# Altium footprint library ON Semi General Purpose Transistors.PcbLib: 66 footprints (part 2 of 5)
Each footprint in its own frame and in the unit in brackets; x right, y up, seen from the top. Pads: shape width x height; smd on the part's side, far side on the other; paste and mask are expansions set on the pad; w line width, h text height; cw(c..) or ccw(c..) is an arc to the next point about the centre after c.
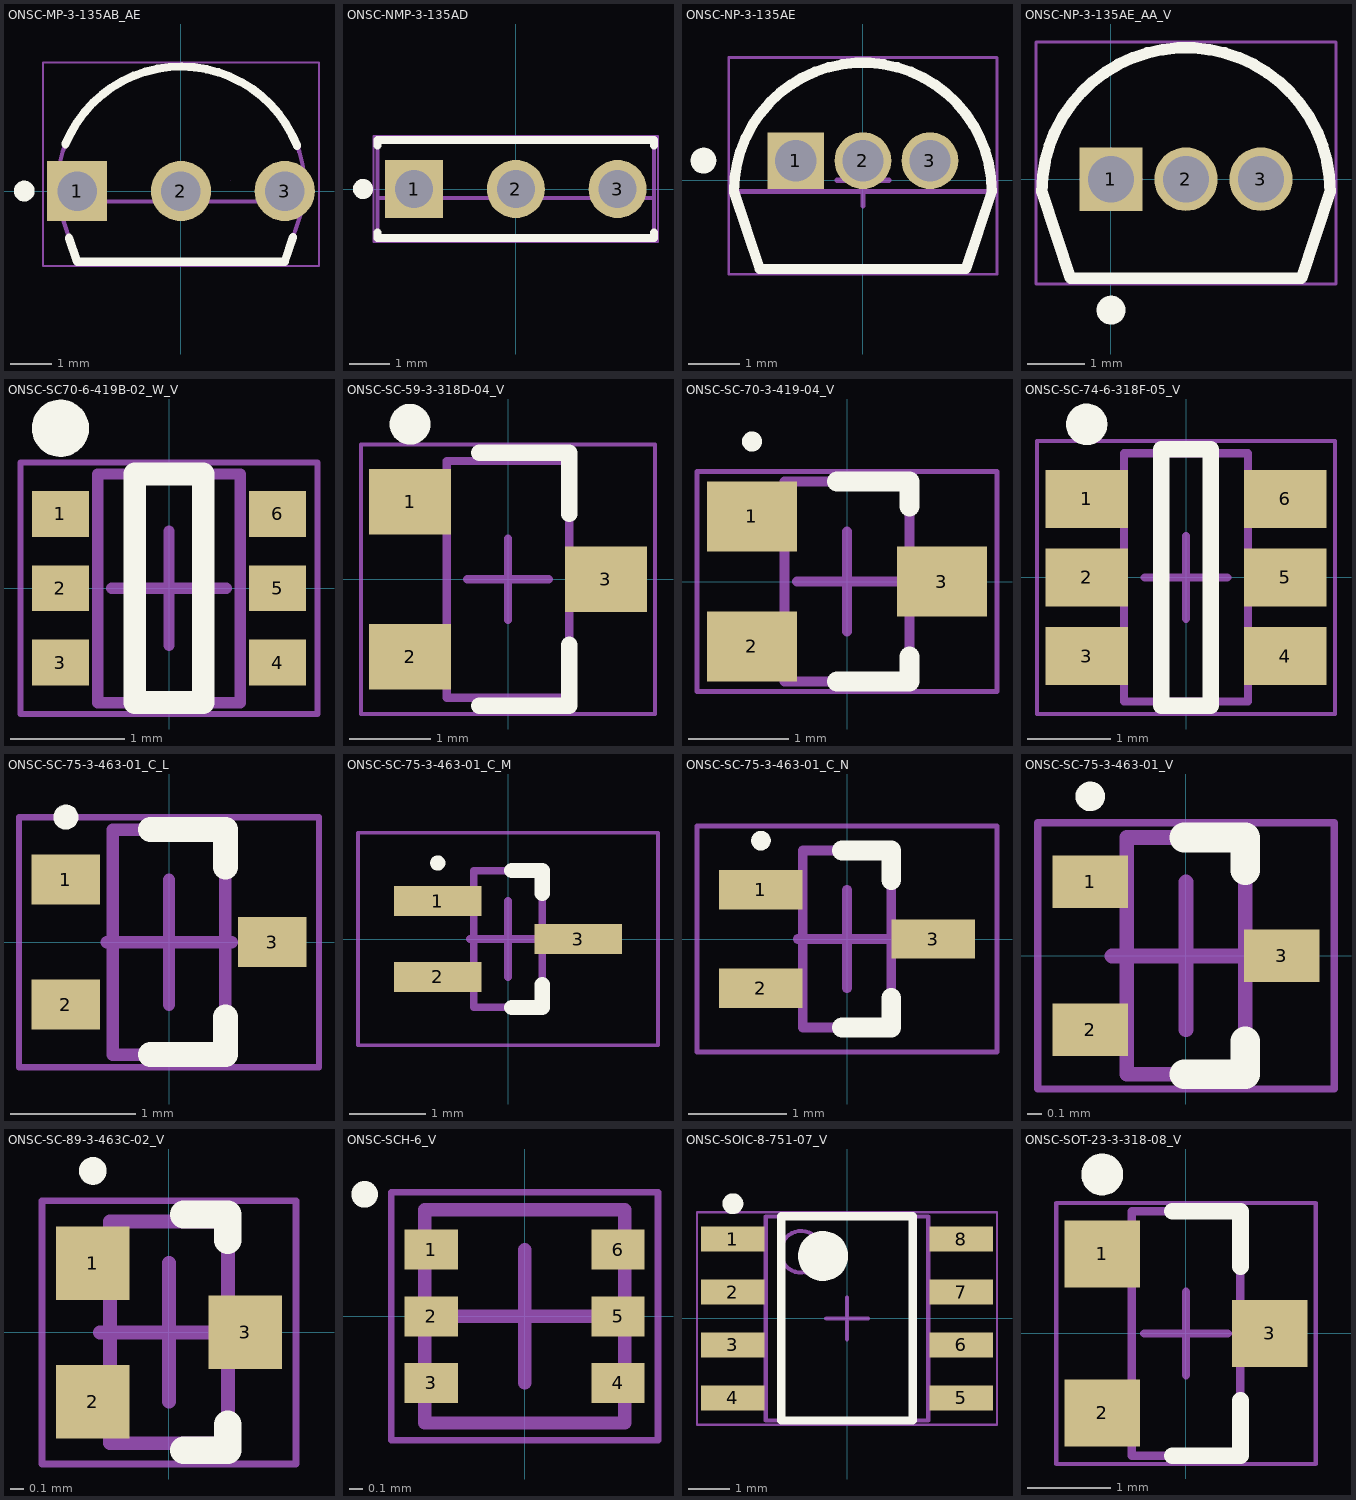
[diagram p1: the footprints below, top view; thin cyan lines are the x and y axes]

## ONSC-MP-3-135AB_AE [mm] "TO, 3-Leads, Body Dia 6mm, Pitch 2.5mm"
height 12.7
pads (3):
  rect 1.45x1.45 hole 0.95: 1(-2.5,0)
  round 1.45 hole 0.95: 2(0,0) 3(2.5,0)
Top Overlay:
  circle w0.25: c-3.775,0 r0.125
  lines w0.2: -2.781,1.125 cw(c0,0) 2.797,1.085 ; -2.694,-1.125 -2.5,-1.7 2.5,-1.7 2.7,-1.108
Mechanical 13:
  lines w0.005: 1.2,0.25 ccw(c1.2,0.25) 1.2,0.25
  lines w0.1: -2.989,-0.25 2.989,-0.25 2.5,-1.7 -2.5,-1.7 -2.989,-0.25 cw(c0,0.004) 2.989,-0.249
Mechanical 15:
  lines w0.05: -3.325,-1.8 -3.325,3.1 3.325,3.1 3.325,-1.8 -3.325,-1.8
  lines w0.1: -0.5,0 0.5,0 ; 0,-0.5 0,0.5
3D body: height 4, standoff -10, extent -2.75,-0.25 -1.2,0.25
3D body: height 12.7, standoff 4, extent -2.989,-1.7 2.989,-0.249
3D body: height 12.7, standoff 4, extent -2.999,-0.25 2.999,3
3D body: height 4, standoff -10, extent -0.25,-0.25 0.25,0.25
3D body: height 4, standoff -10, extent 1.2,-0.25 2.75,0.25

## ONSC-NMP-3-135AD [mm] "NMP, 3-Leads, Body 6.9x2.45mm, Pitch 2.54mm"
height 6.5
pads (3):
  rect 1.45x1.45 hole 0.95: 1(-2.54,0)
  round 1.45 hole 0.95: 2(0,0) 3(2.54,0)
Top Overlay:
  circle w0.25: c-3.815,0 r0.125
  lines w0.2: -3.45,-1.083 -3.45,-1.225 3.45,-1.225 3.45,-1.083 ; -3.45,1.083 -3.45,1.225 3.45,1.225 3.45,1.083
Mechanical 13:
  lines w0.1: -3.45,-0.225 3.45,-0.225 ; -3.45,-1.225 3.45,-1.225 3.45,1.225 -3.45,1.225 -3.45,-1.225
Mechanical 15:
  lines w0.05: -3.55,-1.325 -3.55,1.325 3.55,1.325 3.55,-1.325 -3.55,-1.325
  lines w0.1: -0.5,0 0.5,0 ; 0,-0.5 0,0.5
3D body: height 6.5, standoff 4.44, extent -3.455,-1.228 3.445,0.837
3D body: height 6.5, standoff 2, extent -3.45,-0.225 3.45,1.225
3D body: height 5.5, standoff 2, extent -3.45,-1.225 3.45,-0.225
3D body "2.step": height 2, standoff -13, extent -2.79,-0.225 2.79,0.225

## ONSC-NP-3-135AE [mm] "TO, 3-Leads, Body Dia 5 mm, Pitch 1.3 mm"
height 7.1
pads (3):
  rect 1.1x1.1 hole 0.8: 1(-1.3,0.38)
  round 1.1 hole 0.8: 2(0,0.38) 3(1.3,0.38)
Top Overlay:
  circle w0.25: c-3.092,0.38 r0.125
  lines w0.2: -2.5,-0.22 cw(c0,-0.22) 2.5,-0.22 2,-1.72 -2,-1.72 -2.5,-0.22
Mechanical 13:
  lines w0.1: -2.5,-0.22 cw(c0,-0.22) 2.5,-0.22 ; -2.5,-0.22 -2,-1.72 2,-1.72 2.5,-0.22 ; -2.5,-0.22 2.5,-0.22
Mechanical 15:
  lines w0.05: -2.6,-1.82 2.6,-1.82 2.6,2.38 -2.6,2.38 -2.6,-1.82
  lines w0.1: -0.5,0 0.5,0 ; 0,-0.5 0,0.5
3D body: height 7.1, standoff 1.9, extent -2.5,-1.719 2.5,2.279

## ONSC-NP-3-135AE_AA_V [mm] "NP, 3-Leads, Body 5x4mm, Pitch 1.3mm"
height 5
pads (3):
  rect 1.1x1.1 hole 0.8 paste-0.06: 1(0,0)
  round 1.1 hole 0.8 paste-0.06: 2(1.3,0) 3(2.6,0)
Top Overlay:
  circle w0.25: c0,-2.27 r0.125
  lines w0.2: -1.2,-0.22 cw(c1.3,-0.22) 3.8,-0.22 3.3,-1.72 -0.7,-1.72 -1.2,-0.22
Mechanical 13:
  lines w0.005: 0.28,-0.22 0.28,0.22 ; 1.05,-0.22 1.05,0.22 ; -0.195,-0.22 -0.195,0.22 0.255,0.22 0.255,-0.22 -0.195,-0.22 ; 1.075,-0.22 1.525,-0.22 1.525,0.22 1.075,0.22 1.075,-0.22 ; 2.32,-0.22 2.82,-0.22 2.82,0.22 2.32,0.22 2.32,-0.22 ; 2.345,-0.22 2.345,0.22 2.795,0.22 2.795,-0.22 2.345,-0.22
  lines w0.1: -1.2,-0.22 cw(c1.3,-0.22) 3.8,-0.22 3.3,-1.72 -0.7,-1.72 -1.2,-0.22
Mechanical 15:
  lines w0.05: -1.3,-1.82 3.9,-1.82 3.9,2.38 -1.3,2.38 -1.3,-1.82
  lines w0.1: -0.5,0 0.5,0 ; 0,-0.5 0,0.5
3D body: height -1.4, standoff -2, extent -0.195,-0.22 0.28,0.22
3D body: height -1.4, standoff -2, extent 2.32,-0.22 2.82,0.22
3D body: height -1.4, standoff -2, extent 1.05,-0.22 1.525,0.22
3D body: height 5, standoff 0, extent -1.2,-1.719 3.8,2.279
3D body: height -2, standoff -4, extent -0.195,-0.22 0.255,0.22
3D body: height -2, standoff -4, extent 1.075,-0.22 1.525,0.22
3D body: height -2, standoff -4, extent 2.345,-0.22 2.795,0.22
3D body: height 0, standoff -1.4, extent -0.195,-0.22 0.255,0.22
3D body: height 0, standoff -1.4, extent 1.075,-0.22 1.525,0.22
3D body: height 0, standoff -1.4, extent 2.345,-0.22 2.795,0.22

## ONSC-SC70-6-419B-02_W_V [mm] "SOT23, 6-Leads, Body 2x1.25mm, Pitch 0.65mm"
height 1.1
pads (6):
  rect 0.5x0.4 smd: 1(-0.95,0.65) 2(-0.95,0) 3(-0.95,-0.65) 4(0.95,-0.65) 5(0.95,0) 6(0.95,0.65)
Top Overlay:
  circle w0.25: c-0.95,1.4 r0.125
  lines w0.2: -0.3,-1 0.3,-1 0.3,1 -0.3,1 -0.3,-1
Mechanical 13:
  lines w0.1: -0.625,-1 -0.625,1 0.625,1 0.625,-1 -0.625,-1
Mechanical 15:
  lines w0.05: -1.3,-1.1 -1.3,1.1 1.3,1.1 1.3,-1.1 -1.3,-1.1
  lines w0.1: -0.5,0 0.5,0 ; 0,-0.5 0,0.5
3D body: height 1.1, standoff 0, extent -0.625,-1 0.625,1

## ONSC-SC-59-3-318D-04_V [mm] "SOT23, 3-Leads, Body 2.9x1.5mm, Pitch 0.95mm"
height 1.3
pads (3):
  rect 1x0.8 smd: 1(-1.2,0.95) 2(-1.2,-0.95) 3(1.2,0)
Top Overlay:
  circle w0.25: c-1.2,1.9 r0.125
  lines w0.2: -0.354,-1.55 0.75,-1.55 0.75,-0.8 ; -0.354,1.55 0.75,1.55 0.75,0.8
Mechanical 13:
  lines w0.1: -0.75,-1.45 -0.75,1.45 0.75,1.45 0.75,-1.45 -0.75,-1.45
Mechanical 15:
  lines w0.05: -1.8,-1.65 -1.8,1.65 1.8,1.65 1.8,-1.65 -1.8,-1.65
  lines w0.1: -0.5,0 0.5,0 ; 0,-0.5 0,0.5
3D body: height 1.3, standoff 0.01, extent -0.75,-1.45 0.75,1.45

## ONSC-SC-70-3-419-04_V [mm] "SOT23, 3-Leads, Body 2x1.25mm, Pitch 0.65mm"
height 1
pads (3):
  rect 0.9x0.7 smd: 1(-0.95,0.65) 2(-0.95,-0.65) 3(0.95,0)
Top Overlay:
  circle w0.1: c-0.95,1.4 r0.05
  lines w0.2: -0.1,-1 0.625,-1 0.625,-0.75 ; -0.1,1 0.625,1 0.625,0.75
Mechanical 13:
  lines w0.1: -0.625,-1 0.625,-1 0.625,1 -0.625,1 -0.625,-1
Mechanical 15:
  lines w0.05: -1.5,-1.1 1.5,-1.1 1.5,1.1 -1.5,1.1 -1.5,-1.1
  lines w0.1: -0.5,0 0.5,0 ; 0,-0.5 0,0.5
3D body: height 1, standoff 0, extent -0.625,-1 0.625,1

## ONSC-SC-74-6-318F-05_V [mm] "SOT23, 6-Leads, Body 3x1.5mm, Pitch 0.95mm"
height 1.1
pads (6):
  rect 1x0.7 smd: 1(-1.2,0.95) 2(-1.2,0) 3(-1.2,-0.95) 4(1.2,-0.95) 5(1.2,0) 6(1.2,0.95)
Top Overlay:
  circle w0.25: c-1.2,1.85 r0.125
  lines w0.2: -0.3,-1.55 -0.3,1.55 0.3,1.55 0.3,-1.55 -0.3,-1.55
Mechanical 13:
  lines w0.1: -0.75,-1.5 0.75,-1.5 0.75,1.5 -0.75,1.5 -0.75,-1.5
Mechanical 15:
  lines w0.05: -1.8,-1.65 1.8,-1.65 1.8,1.65 -1.8,1.65 -1.8,-1.65
  lines w0.1: -0.5,0 0.5,0 ; 0,-0.5 0,0.5
3D body: height 1.1, standoff 0.01, extent -0.75,-1.5 0.75,1.5

## ONSC-SC-75-3-463-01_C_L [mm] "SOT23, 3-Leads, Body 1.8x0.9mm, Pitch 0.5mm, IPC High Density"
height 1
pads (3):
  rect 0.55x0.4 smd: 1(-0.825,0.5) 2(-0.825,-0.5) 3(0.825,0)
Top Overlay:
  circle w0.1: c-0.825,1 r0.05
  lines w0.2: -0.15,-0.9 0.45,-0.9 0.45,-0.6 ; -0.15,0.9 0.45,0.9 0.45,0.6
Mechanical 13:
  lines w0.1: -0.45,-0.9 0.45,-0.9 0.45,0.9 -0.45,0.9 -0.45,-0.9
Mechanical 15:
  lines w0.05: -1.2,-1 1.2,-1 1.2,1 -1.2,1 -1.2,-1
  lines w0.1: -0.5,0 0.5,0 ; 0,-0.5 0,0.5
3D body: height 1, standoff 0.1, extent -0.45,-0.9 0.45,0.9

## ONSC-SC-75-3-463-01_C_M [mm] "SOT23, 3-Leads, Body 1.8x0.9mm, Pitch 0.5mm, IPC Low Density"
height 1
pads (3):
  rect 1.15x0.4 smd: 1(-0.925,0.5) 2(-0.925,-0.5) 3(0.925,0)
Top Overlay:
  circle w0.1: c-0.925,1 r0.05
  lines w0.2: 0.05,-0.9 0.45,-0.9 0.45,-0.6 ; 0.05,0.9 0.45,0.9 0.45,0.6
Mechanical 13:
  lines w0.1: -0.45,-0.9 -0.45,0.9 0.45,0.9 0.45,-0.9 -0.45,-0.9
Mechanical 15:
  lines w0.05: -1.975,-1.4 -1.975,1.4 1.975,1.4 1.975,-1.4 -1.975,-1.4
  lines w0.1: -0.5,0 0.5,0 ; 0,-0.5 0,0.5
3D body: height 1, standoff 0.1, extent -0.45,-0.9 0.45,0.9

## ONSC-SC-75-3-463-01_C_N [mm] "SOT23, 3-Leads, Body 1.8x0.9mm, Pitch 0.5mm, IPC Medium Density"
height 1
pads (3):
  rect 0.85x0.4 smd: 1(-0.875,0.5) 2(-0.875,-0.5) 3(0.875,0)
Top Overlay:
  circle w0.1: c-0.875,1 r0.05
  lines w0.2: -0.05,-0.9 0.45,-0.9 0.45,-0.6 ; -0.05,0.9 0.45,0.9 0.45,0.6
Mechanical 13:
  lines w0.1: -0.45,-0.9 0.45,-0.9 0.45,0.9 -0.45,0.9 -0.45,-0.9
Mechanical 15:
  lines w0.05: -1.525,-1.15 1.525,-1.15 1.525,1.15 -1.525,1.15 -1.525,-1.15
  lines w0.1: -0.5,0 0.5,0 ; 0,-0.5 0,0.5
3D body: height 1, standoff 0.1, extent -0.45,-0.9 0.45,0.9

## ONSC-SC-75-3-463-01_V [mil] "SOT23, 3-Leads, Body 1.6x0.8mm, Pitch 0.5mm"
height 35.43
pads (3):
  rect 20x14.02 smd: 1(-25.49,19.68) 2(-25.49,-19.69) 3(25.49,0)
Top Overlay:
  circle w3.94: c-25.47,42.44 r1.97
  lines w7.87: -0.5,-31.5 15.75,-31.5 15.75,-22.76 ; -0.5,31.5 15.75,31.5 15.75,22.76
Mechanical 13:
  lines w3.94: -15.75,-31.5 -15.75,31.5 15.75,31.5 15.75,-31.5 -15.75,-31.5
Mechanical 15:
  lines w1.97: -39.43,-35.43 -39.43,35.43 39.43,35.43 39.43,-35.43 -39.43,-35.43
  lines w3.94: -19.68,0 19.69,0 ; 0,-19.69 0,19.68
3D body: height 35.43, standoff 0, extent -15.75,-31.5 15.75,31.5

## ONSC-SC-89-3-463C-02_V [mm] "SOT23, 3-Leads, Body 1.6x0.85mm, Pitch 0.5mm"
height 0.8
pads (3):
  rect 0.53x0.53 smd: 1(-0.55,0.5) 2(-0.55,-0.5) 3(0.55,0)
Top Overlay:
  circle w0.1: c-0.55,1.165 r0.05
  lines w0.2: 0.106,-0.85 0.425,-0.85 0.425,-0.665 ; 0.106,0.85 0.425,0.85 0.425,0.665
Mechanical 13:
  lines w0.1: -0.425,-0.8 0.425,-0.8 0.425,0.8 -0.425,0.8 -0.425,-0.8
Mechanical 15:
  lines w0.05: -0.915,-0.95 0.915,-0.95 0.915,0.95 -0.915,0.95 -0.915,-0.95
  lines w0.1: -0.5,0 0.5,0 ; 0,-0.5 0,0.5
3D body: height 0.8, standoff 0, extent -0.425,-0.8 0.425,0.8

## ONSC-SCH-6_V [mm] "SON, 6-Leads, Body 1.6x1.5mm, Pitch 0.5mm"
height 0.6
pads (6):
  rect 0.4x0.3 smd: 1(-0.7,0.5) 2(-0.7,0) 3(-0.7,-0.5) 4(0.7,-0.5) 5(0.7,0) 6(0.7,0.5)
Top Overlay:
  circle w0.1: c-1.2,0.915 r0.05
Mechanical 13:
  lines w0.1: -0.75,-0.8 0.75,-0.8 0.75,0.8 -0.75,0.8 -0.75,-0.8
Mechanical 15:
  lines w0.05: -1,-0.93 1,-0.93 1,0.93 -1,0.93 -1,-0.93
  lines w0.1: -0.5,0 0.5,0 ; 0,-0.5 0,0.5
3D body: height 0.6, standoff 0, extent -0.75,-0.8 0.75,0.8

## ONSC-SOIC-8-751-07_V [mm] "SOIC, 8-Leads, Body 4.9x3.9mm, Pitch 1.27mm"
height 1.75
pads (8):
  rect 1.52x0.6 smd: 1(-2.74,1.905) 2(-2.74,0.635) 3(-2.74,-0.635) 4(-2.74,-1.905) 5(2.74,-1.905) 6(2.74,-0.635) 7(2.74,0.635) 8(2.74,1.905)
Top Overlay:
  circle w0.25: c-2.74,2.755 r0.125
  circle w0.6: c-0.575,1.5 r0.3
  lines w0.2: -1.58,-2.45 -1.58,2.45 1.58,2.45 1.58,-2.45 -1.58,-2.45
Mechanical 13:
  circle w0.1: c-1.1,1.6 r0.5
  lines w0.1: -1.95,-2.45 -1.95,2.45 1.95,2.45 1.95,-2.45 -1.95,-2.45
Mechanical 15:
  lines w0.05: -3.6,-2.55 -3.6,2.55 3.6,2.55 3.6,-2.55 -3.6,-2.55
  lines w0.1: -0.5,0 0.5,0 ; 0,-0.5 0,0.5
3D body: height 1.75, standoff 0.1, extent -1.95,-2.45 1.95,2.45

## ONSC-SOT-23-3-318-08_V [mm] "SOT23, 3-Leads, Body 2.92x1.3mm, Pitch 0.95mm"
height 1.11
pads (3):
  rect 0.9x0.8 smd: 1(-1,0.95) 2(-1,-0.95) 3(1,0)
Top Overlay:
  circle w0.25: c-1,1.9 r0.125
  lines w0.2: -0.165,-1.46 0.65,-1.46 0.65,-0.8 ; -0.165,1.46 0.65,1.46 0.65,0.8
Mechanical 13:
  lines w0.1: -0.65,-1.46 0.65,-1.46 0.65,1.46 -0.65,1.46 -0.65,-1.46
Mechanical 15:
  lines w0.05: -1.55,-1.56 1.55,-1.56 1.55,1.56 -1.55,1.56 -1.55,-1.56
  lines w0.1: -0.5,0 0.5,0 ; 0,-0.5 0,0.5
3D body: height 1.11, standoff 0.01, extent -0.65,-1.46 0.65,1.46